# Altium footprint library pcb_Mechanical.PcbLib: 50 footprints (part 1 of 4)
Each footprint in its own frame and in the unit in brackets; x right, y up, seen from the top. Pads: shape width x height; smd on the part's side, far side on the other; paste and mask are expansions set on the pad; w line width, h text height; cw(c..) or ccw(c..) is an arc to the next point about the centre after c.
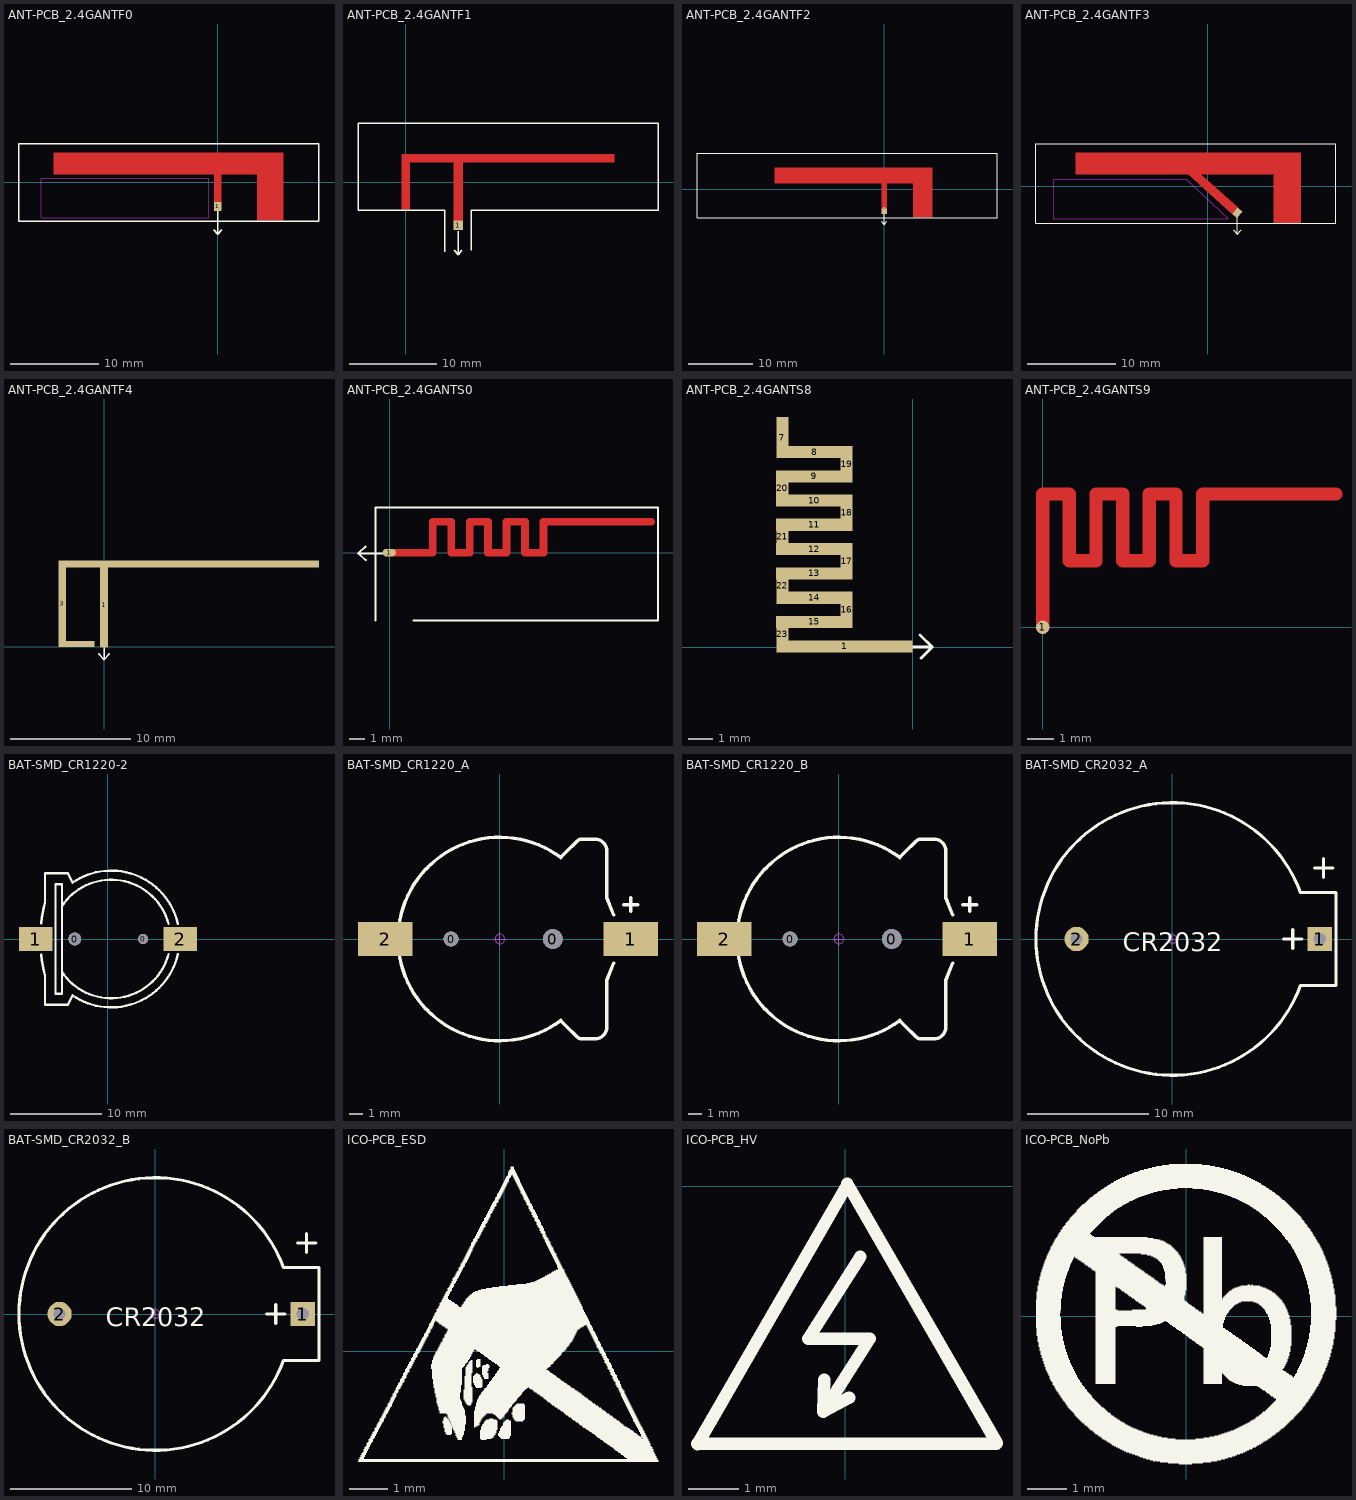
[diagram p0: the footprints below, top view; thin cyan lines are the x and y axes]

## ANT-PCB_2.4GANTF0 [mil]
pads (1):
  rect 33x39.37 smd: 1(0,-107)
Top Layer:
  rectangle: 176.18,-170.28 294.29,133.86
  rectangle: -17,-110 17,133.86
  rectangle: -733.27,35.43 294.29,133.86
Top Overlay:
  lines w6: -18.11,-211.81 -0.39,-231.5 ; -0.39,-125.59 -0.39,-231.5 ; 16.93,-211.42 -0.39,-231.5 ; -886.81,-173.23 451.77,-173.23 451.77,173.23 -886.81,173.23 -886.81,-173.23
Keep-Out Layer:
  lines w5: -787.4,-157.48 -787.4,19.68 -39.37,19.68 -39.37,-157.48 -787.4,-157.48

## ANT-PCB_2.4GANTF1 [mil]
pads (1):
  rect 42x42 smd: 1(237,-195)
Top Layer:
  rectangle: -19.68,88.58 944.88,127.95
  rectangle: 216,-180 258,127.95
  rectangle: -19.68,-125 19.68,127.95
Top Overlay:
  lines w6: 177.17,-316 177.17,-127.95 -216.54,-127.95 -216.54,265.75 1141.73,265.75 1141.73,-127.95 295.28,-127.95 295.28,-309 ; 219.29,-308.27 237.01,-327.95 ; 237.01,-222.05 237.01,-327.95 ; 254.33,-307.87 237.01,-327.95

## ANT-PCB_2.4GANTF2 [mil]
pads (1):
  rect 34x34 smd: 1(0,-134)
Top Layer:
  rectangle: -670.28,35.43 294.29,133.86
  rectangle: -17,-133.86 17,133.86
  rectangle: 176.18,-170.28 294.29,133.86
Top Overlay:
  lines w5: -18.9,-195.28 -1.18,-214.96 ; -1.18,-109.06 -1.18,-214.96 ; 16.14,-194.88 -1.18,-214.96 ; -1142.72,-173.23 -1142.72,220.47 687.99,220.47 687.99,-173.23 -1142.72,-173.23

## ANT-PCB_2.4GANTF3 [mil]
pads (1):
  rect 39.37x30 smd rot 48: 1(131,-118)
Top Layer:
  region: 107.75,-123.72 134.21,-94.33 -66.91,86.76 -93.37,57.37
  rectangle: -589.65,51.37 414.29,149.8
  rectangle: 293,-164 415,150
Top Overlay:
  lines w5: 114.17,-194.09 131.89,-213.78 ; 131.89,-107.87 131.89,-213.78 ; 149.21,-193.7 131.89,-213.78 ; -766.81,-165.17 -766.81,189.17 571.77,189.17 571.77,-165.17 -766.81,-165.17
Keep-Out Layer:
  lines w5: -688.07,-145.48 -688.07,31.68 -97,32 91,-145.48 -688.07,-145.48

## ANT-PCB_2.4GANTF4 [mm]
pads (4):
  rect 0.65x7 smd: 1(-0.013,3.472)
  rect 3x0.5 smd: 2(-2.325,0.246)
  rect 0.64x7.2 smd: 3(-3.5,3.609)
  rect 21.7x0.6 smd: 4(7.024,6.909)
Top Overlay:
  lines w0.127: -0.47,-0.57 -0.02,-1.07 ; -0.02,-0.06 -0.02,-1.07 ; 0.42,-0.56 -0.02,-1.07

## ANT-PCB_2.4GANTS0 [mil]
pads (1):
  oval 34x19.68 smd: 1(-1,0)
Top Layer:
  lines w19.68: 0,0 110.24,0 110.24,78.74 157.48,78.74 157.48,0 204.72,0 204.72,78.74 251.97,78.74 251.97,0 299.21,0 299.21,78.74 346.46,78.74 346.46,0 393.7,0 393.7,78.74 669.29,78.74
Top Overlay:
  lines w5: -61.06,15.75 -80.74,-1.97 ; -60.66,-19.29 -80.74,-1.97 ; -35.92,-173.86 -35.92,115.75 686.61,115.75 686.61,-173.86 61.09,-173.86 ; -12.99,-1.97 -80.74,-1.97

## ANT-PCB_2.4GANTS8 [mm]
pads (18):
  rect 5.58x0.5 smd: 1(-2.788,0.028)
  rect 0.5x1.702 smd: 7(-5.369,8.647)
  rect 3.15x0.5 smd: 8(-4.043,8.046) 9(-4.05,7.045) 10(-4.05,6.046) 11(-4.05,5.048) 12(-4.05,4.041) 13(-4.05,3.041) 14(-4.048,2.038) 15(-4.05,1.036)
  rect 0.5x1.5 smd: 16(-2.725,1.535) 17(-2.725,3.541) 18(-2.725,5.548) 19(-2.72,7.545) 20(-5.375,6.546) 21(-5.375,4.546) 22(-5.373,2.541) 23(-5.375,0.528)
Top Overlay:
  lines w0.127: -0.34,0 0.81,0 ; 0.31,0.5 0.81,0 ; 0.36,-0.45 0.81,0

## ANT-PCB_2.4GANTS9 [mm]
pads (1):
  round 0.5 smd: 1(0,0)
Top Layer:
  lines w0.5: 0,0 0,5 1,5 1,2.5 2,2.5 2,4.96 ; 2,5 3,5 3,2.5 4,2.5 4,4.99 ; 4,5 5,5 5,2.5 6,2.5 6,5 11,5

## BAT-SMD_CR1220-2 [mm]
pads (4):
  round 1.4 hole 1.4 unplated: 0(-3.645,0)
  round 1.1 hole 1.1 unplated: 0(3.855,0)
  rect 3.66x2.6 smd: 1(-7.925,0) 2(7.925,0)
Top Overlay:
  lines w0.254: -7.33,-1.73 ccw(c7.855,0) -6.895,-4 -6.895,-7.2 -4.395,-7.2 -3.895,-6.18 ccw(c0.355,0) 7.663,-1.687 ; -7.33,1.73 cw(c7.855,0) -6.895,4 -6.895,7.2 -4.395,7.2 -3.895,6.18 cw(c0.355,0) 7.663,1.687 ; -5.044,-3.619 ccw(c0.355,0) 6.634,-1.682 ; -5.044,3.619 cw(c0.355,0) 6.634,1.682 ; -5.745,-6 -5.745,6 -5.045,6 -5.045,-6 -5.745,-6
3D body "CR1220.STEP": height 4, standoff -0.94, extent -9.145,-7.5 9.355,7.497

## BAT-SMD_CR1220_A [mm] "纽扣电池座"
pads (4):
  round 1.1 hole 1.1: 0(-3.6,0)
  round 1.45 hole 1.45: 0(3.9,0)
  rect 4x2.5 smd: 1(9.652,0) 2(-8.458,0)
Top Overlay:
  lines w0.254: 4.5,-6 cw(c0,0) 4.5,6 ; 4.572,-6.096 4.826,-6.35 5.662,-7.186 ccw(c6.096,-6.753) 6.096,-7.366 7.007,-7.366 ccw(c7.007,-6.499) 7.874,-6.499 7.874,-3.048 8.382,-1.778 ; 4.572,6.096 4.826,6.35 5.662,7.186 cw(c6.096,6.753) 6.096,7.366 7.007,7.366 cw(c7.007,6.499) 7.874,6.499 7.874,3.048 8.382,1.778 ; 9.144,2.54 10.16,2.54 ; 9.652,2.032 9.652,3.048
Mechanical 15:
  circle w0.05: c0,0 r0.35
  lines w0.05: -0.5,0 0.5,0 ; 0,-0.5 0,0.5
3D body "CR1220_A.STEP": height 4.05, standoff -0.85, extent -9.416,-7.45 10.34,7.45

## BAT-SMD_CR1220_B [mm] "纽扣电池座"
pads (4):
  round 1.1 hole 1.1: 0(-3.6,0)
  round 1.45 hole 1.45: 0(3.9,0)
  rect 4x2.5 smd: 1(9.652,0) 2(-8.458,0)
Top Overlay:
  lines w0.254: 4.5,-6 cw(c0,0) 4.5,6 ; 4.572,-6.096 4.826,-6.35 5.662,-7.186 ccw(c6.096,-6.753) 6.096,-7.366 7.007,-7.366 ccw(c7.007,-6.499) 7.874,-6.499 7.874,-3.048 8.382,-1.778 ; 4.572,6.096 4.826,6.35 5.662,7.186 cw(c6.096,6.753) 6.096,7.366 7.007,7.366 cw(c7.007,6.499) 7.874,6.499 7.874,3.048 8.382,1.778 ; 9.144,2.54 10.16,2.54 ; 9.652,2.032 9.652,3.048
Mechanical 15:
  circle w0.05: c0,0 r0.35
  lines w0.05: -0.5,0 0.5,0 ; 0,-0.5 0,0.5
3D body "CR1220_B.STEP": height 4.05, standoff -0.85, extent -9.416,-7.45 10.34,7.45

## BAT-SMD_CR2032_A [mm] "纽扣电池座"
pads (2):
  rect 2x2 hole 1: 1(12.126,0)
  round 2 hole 1: 2(-7.874,0)
Top Overlay:
  lines w0.254: 9.144,0 10.668,0 ; 9.906,-0.762 9.906,0.762 ; 11.684,5.842 13.208,5.842 ; 12.446,5.08 12.446,6.604 ; 10.541,-3.81 cw(c0,0) 10.541,3.81 13.462,3.81 13.462,-3.81 10.541,-3.81
  text "CR2032" at -4.064,-1.016 h1.52
Mechanical 15:
  circle w0.05: c0,0 r0.35
  lines w0.05: -0.5,0 0.5,0 ; 0,-0.5 0,0.5
3D body "CR2032_A.STEP": height 8.75, standoff -3.05, extent -11.1,-11.099 13.3,11.099

## BAT-SMD_CR2032_B [mm] "纽扣电池座"
pads (2):
  rect 2x2 hole 1: 1(12.126,0)
  round 2 hole 1: 2(-7.874,0)
Top Overlay:
  lines w0.254: 9.144,0 10.668,0 ; 9.906,-0.762 9.906,0.762 ; 11.684,5.842 13.208,5.842 ; 12.446,5.08 12.446,6.604 ; 10.541,-3.81 cw(c0,0) 10.541,3.81 13.462,3.81 13.462,-3.81 10.541,-3.81
  text "CR2032" at -4.064,-1.016 h1.52
Mechanical 15:
  circle w0.05: c0,0 r0.35
  lines w0.05: -0.5,0 0.5,0 ; 0,-0.5 0,0.5
3D body "CR2032_B.STEP": height 8.75, standoff -3.05, extent -11.1,-11.099 13.3,11.099

## ICO-PCB_ESD [mm]
Top Overlay:
  drawing of 990 lines, arcs and shapes, not listed

## ICO-PCB_HV [mm]
Top Overlay:
  lines w0.25: -2.97,-5.151 3.03,-5.151 ; -2.96,-5.161 0.04,0.035 ; -0.43,-4.501 0.49,-3.051 -0.74,-3.051 0.3,-1.411 ; -0.42,-3.871 -0.44,-4.511 0.08,-4.231 ; 0.04,0.051 3.04,-5.145

## ICO-PCB_NoPb [mm]
Top Overlay:
  drawing of 960 lines, arcs and shapes, not listed